# Altium schematic symbol library PiezoDrive.SchLib: 7 symbols
Pins are listed as number, name and electrical type; pins without a type are passive.

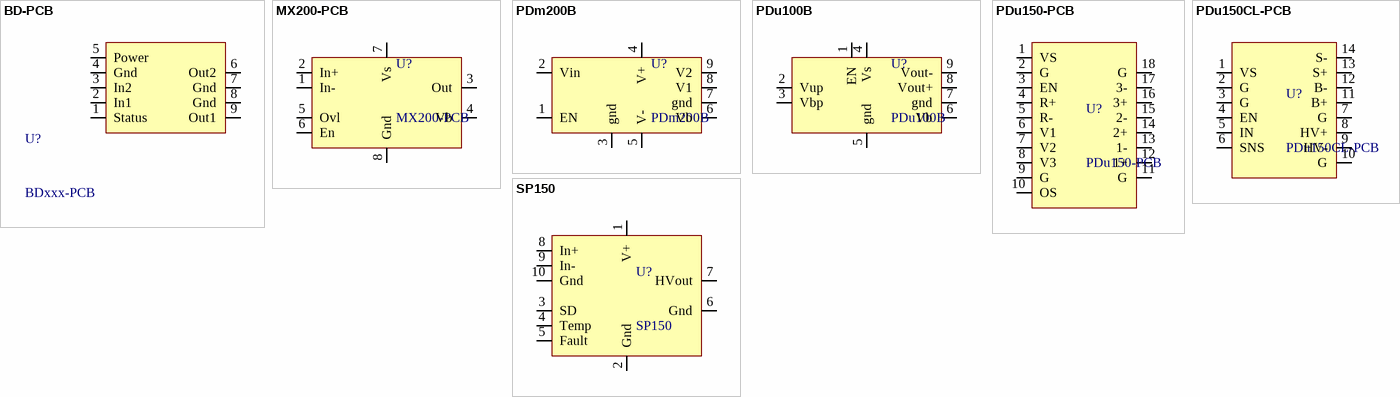
[diagram p0: symbols BD-PCB to SP150]

## BD-PCB
designator U?, comment BDxxx-PCB
BD300 Family module with PCB pins; Manufacturer: PiezoDrive; Manufacturer Code: BDxxx-PCB
footprint BD300-PCB (BD300 PCB Mounting)
pins: 1 Status, 2 In1, 3 In2, 4 Gnd, 5 Power, 6 Out2, 7 Gnd, 8 Gnd, 9 Out1

## MX200-PCB
designator U?
PiezoDrive MX200 Module 200V Amplifier; Manufacturer Code: MX200-PCB; Manufacturer: PiezoDrive
footprint MX200-PCB (MX200 with header for PCB mounting)
pins: 1 In-, 2 In+, 3 Out, 4 Vb, 5 Ovl, 6 En, 7 Vs, 8 Gnd

## PDm200B
designator U?
PiezoDrive PDm200B Module +/-200V Amplifier; Manufacturer Code: PDm200B-PCB; Manufacturer: PiezoDrive
footprint PDm200B (PiezoDrive PDm200B Module)
pins: 1 EN, 2 Vin, 3 gnd, 4 V+, 5 V-, 6 Vb, 7 gnd, 8 V1, 9 V2

## PDu100B
designator U?
PiezoDrive PDu100B Module +/-100V Amplifier; Manufacturer Code: PDu100B-PCB; Manufacturer: PiezoDrive
footprint PDu100B (PiezoDrive PDu100B Module)
pins: 1 EN, 2 Vup, 3 Vbp, 4 Vs, 5 gnd, 6 Vb, 7 gnd, 8 Vout+, 9 Vout-

## PDu150-PCB
designator U?
PDu150 150V Piezo Driver; Manufacturer Code: PDu150-PCB; Manufacturer: PiezoDrive
footprint PDu150-PCB (150V Piezo Driver)
pins: 1 VS, 2 G, 3 EN, 4 R+, 5 R-, 6 V1, 7 V2, 8 V3, 9 G, 10 OS, 11 G, 12 1+, 13 1-, 14 2+, 15 2-, 16 3+, 17 3-, 18 G

## PDu150CL-PCB
designator U?
PDu150CL 150V Piezo Controller; Manufacturer: PiezoDrive; Manufacturer Code: PDu150CL-PCB
footprint PDu150CL-PCB (Footprint not found)
pins: 1 VS, 2 G, 3 G, 4 EN, 5 IN, 6 SNS, 7 G, 8 HV+, 9 HV-, 10 G, 11 B+, 12 B-, 13 S+, 14 S-

## SP150
designator U?
SP150 Amplifier; Manufacturer Code: MX200-PCB; Manufacturer: PiezoDrive
pins: 1 V+, 2 Gnd, 3 SD, 4 Temp, 5 Fault, 6 Gnd, 7 HVout, 8 In+, 9 In-, 10 Gnd